# EAGLE library part XDOT_MODULE (library signpost)
Multitech XDOT LoRa Module
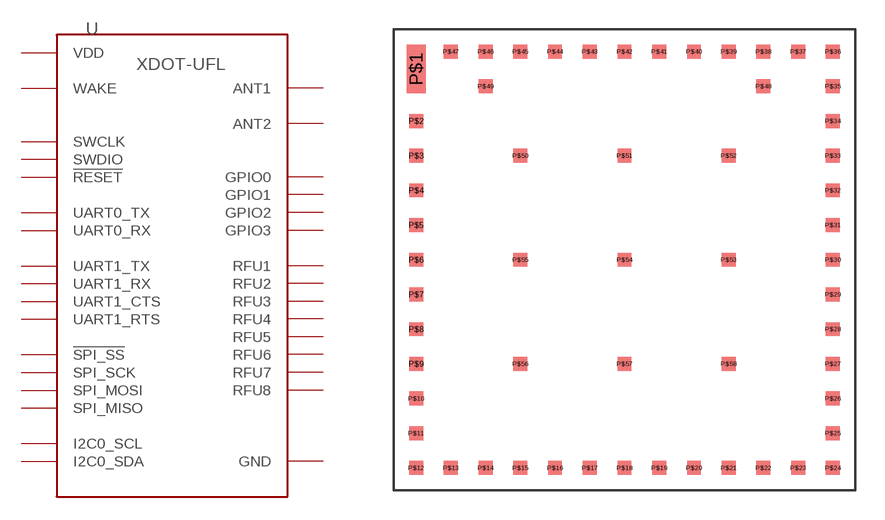
[diagram p29: symbol with the pads of XDOT_MODULE; footprint XDOT_MODULE]

Designator prefix U

## XDOT_MODULE (MANUFACTURER: Multitech; MPN: MTXDOT-NA1-A00-1)  [XDOT_MODULE]
P$1  GND
P$2  RFU1
P$3  VDD
P$4  VDD
P$5  GND
P$6  RFU2
P$7  RFU3
P$8  RFU4
P$9  !SPI_SS
P$10  SPI_SCK
P$11  SPI_MOSI
P$12  SPI_MISO
P$13  UART1_TX
P$14  UART1_RX
P$15  UART0_TX
P$16  UART0_RX
P$17  GND
P$18  RFU5
P$19  RFU6
P$20  GND
P$21  RFU7
P$22  RFU8
P$23  GPIO3
P$24  GPIO2
P$25  GPIO1
P$26  GPIO0
P$27  I2C0_SCL
P$28  I2C0_SDA
P$29  SWCLK
P$30  SWDIO
P$31  UART1_RTS
P$32  UART1_CTS
P$33  !RESET
P$34  WAKE
P$35  GND
P$36  GND
P$37  ANT1
P$38  GND
P$39  GND
P$40  GND
P$41  GND
P$42  GND
P$43  GND
P$44  GND
P$45  GND
P$46  GND
P$47  ANT2
P$48  GND
P$49  GND
P$50  GND
P$51  GND
P$52  GND
P$53  GND
P$54  GND
P$55  GND
P$56  GND
P$57  GND
P$58  GND

## Footprint XDOT_MODULE (pad centres in mm)
smd 0.965 x 2.489: P$1 1.143,21.59
smd 0.711 x 0.711: P$2 1.143,18.923; P$3 1.143,17.145; P$4 1.143,15.367; P$5 1.143,13.589; P$6 1.143,11.811; P$7 1.143,10.033; P$8 1.143,8.255; P$9 1.143,6.477; P$10 1.143,4.699; P$11 1.143,2.921; P$12 1.143,1.143; P$13 2.921,1.143; P$14 4.699,1.143; P$15 6.477,1.143; P$16 8.255,1.143; P$17 10.033,1.143; P$18 11.811,1.143; P$19 13.589,1.143; P$20 15.367,1.143; P$21 17.145,1.143; P$22 18.923,1.143; P$23 20.701,1.143; P$24 22.479,1.143; P$25 22.479,2.921; P$26 22.479,4.699; P$27 22.479,6.477; P$28 22.479,8.255; P$29 22.479,10.033; P$30 22.479,11.811; P$31 22.479,13.589; P$32 22.479,15.367; P$33 22.479,17.145; P$34 22.479,18.923; P$35 22.479,20.701; P$36 22.479,22.479; P$37 20.701,22.479; P$38 18.923,22.479; P$39 17.145,22.479; P$40 15.367,22.479; P$41 13.589,22.479; P$42 11.811,22.479; P$43 10.033,22.479; P$44 8.255,22.479; P$45 6.477,22.479; P$46 4.699,22.479; P$47 2.921,22.479; P$48 18.923,20.701; P$49 4.699,20.701; P$50 6.477,17.145; P$51 11.811,17.145; P$52 17.145,17.145; P$53 17.145,11.811; P$54 11.811,11.811; P$55 6.477,11.811; P$56 6.477,6.477; P$57 11.811,6.477; P$58 17.145,6.477